# Altium footprint library CT-1205H-SMT-TR.PcbLib: 1 footprints
Each footprint in its own frame and in the unit in brackets; x right, y up, seen from the top. Pads: shape width x height; smd on the part's side, far side on the other; paste and mask are expansions set on the pad; w line width, h text height; cw(c..) or ccw(c..) is an arc to the next point about the centre after c.
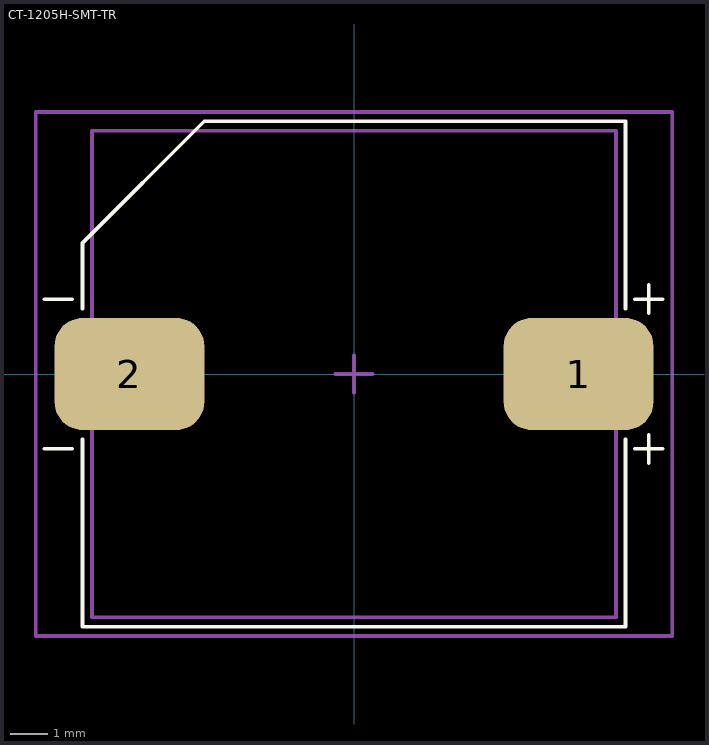
[diagram p0: the footprint, top view; thin cyan lines are the x and y axes]

## CT-1205H-SMT-TR [mm]
pads (2):
  rrect50% 4x3 smd mask+0.05: 1(6,0) 2(-6,0)
Top Overlay:
  lines w0.1: -8.275,-2 -7.525,-2 ; -8.275,2 -7.525,2 ; -7.25,-1.75 -7.25,-6.75 7.25,-6.75 7.25,-1.75 ; -7.25,1.75 -7.25,3.5 -4,6.75 7.25,6.75 7.25,1.75 ; 7.5,-2 8.25,-2 ; 7.5,2 8.25,2 ; 7.875,-2.375 7.875,-1.625 ; 7.875,1.625 7.875,2.375
Top Assembly:
  lines w0.1: -7,-6.5 -7,6.5 7,6.5 7,-6.5 -7,-6.5
Top Courtyard:
  lines w0.1: -0.5,0 0.5,0 ; 0,-0.5 0,0.5 ; -8.5,-7 -8.5,7 8.5,7 8.5,1 8.5,-7 -8.5,-7
3D body "CUI_CT-1205H-SMT-TR.step": height 10, standoff 0, extent -6.9,-6.4 6.9,6.4